# EAGLE library part MC16-G (library con-phoenix-381)
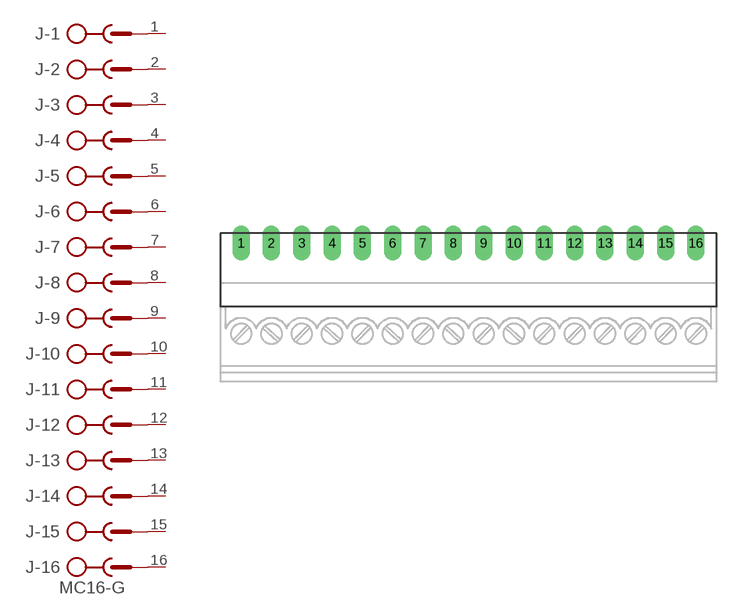
[diagram p46: symbol with the pads of MC16-G; footprint MC16-G]

Designator prefix J; gates -1=SK -2=SK -3=SK -4=SK -5=SK -6=SK -7=SK -8=SK -9=SK -10=SK -11=SK -12=SK -13=SK -14=SK -15=SK -16=SK+V

## MC16-G  [MC16-G]
1  -1:SK  pas
2  -2:SK  pas
3  -3:SK  pas
4  -4:SK  pas
5  -5:SK  pas
6  -6:SK  pas
7  -7:SK  pas
8  -8:SK  pas
9  -9:SK  pas
10  -10:SK  pas
11  -11:SK  pas
12  -12:SK  pas
13  -13:SK  pas
14  -14:SK  pas
15  -15:SK  pas
16  -16:SK  pas

## Footprint MC16-G (pad centres in mm)
drill 1.27 pad 2.184 long: 1 -28.575,0; 2 -24.765,0; 3 -20.955,0; 4 -17.145,0; 5 -13.335,0; 6 -9.525,0; 7 -5.715,0; 8 -1.905,0; 9 1.905,0; 10 5.715,0; 11 9.525,0; 12 13.335,0; 13 17.145,0; 14 20.955,0; 15 24.765,0; 16 28.575,0